# EAGLE library part CARD_EDGE_20 (library Clean-Kong)
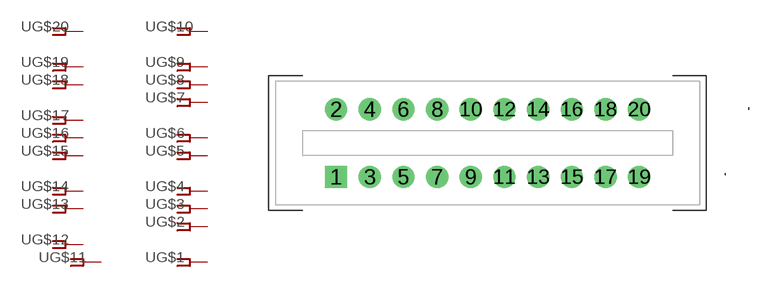
[diagram p17: symbol with the pads of CARD_EDGE_20; footprint CARD_EDGE_20]

Designator prefix -; gates G$1=FPINV G$2=FPINV G$3=FPINV G$4=FPINV G$5=FPINV G$6=FPINV G$7=FPINV G$8=FPINV G$9=FPINV G$10=FPINV G$11=FPINV G$12=FPINV G$13=FPINV G$14=FPINV G$15=FPINV G$16=FPINV G$17=FPINV G$18=FPINV G$19=FPINV G$20=FPINV

## CARD_EDGE_20  [CARD_EDGE_20]
1  G$1:1  pas
2  G$2:1  pas
3  G$3:1  pas
4  G$4:1  pas
5  G$5:1  pas
6  G$6:1  pas
7  G$7:1  pas
8  G$8:1  pas
9  G$9:1  pas
10  G$10:1  pas
11  G$11:1  pas
12  G$12:1  pas
13  G$13:1  pas
14  G$14:1  pas
15  G$15:1  pas
16  G$16:1  pas
17  G$17:1  pas
18  G$18:1  pas
19  G$19:1  pas
20  G$20:1  pas

## Footprint CARD_EDGE_20 (pad centres in mm)
drill 0.8 pad 1.676 square: 1 0,-5.093
drill 0.8 pad 1.676: 2 0,0.013; 3 2.54,-5.093; 4 2.54,0.013; 5 5.08,-5.093; 6 5.08,0.013; 7 7.62,-5.093; 8 7.62,0.013; 9 10.16,-5.093; 10 10.16,0.013; 11 12.7,-5.093; 12 12.7,0.013; 13 15.24,-5.093; 14 15.24,0.013; 15 17.78,-5.093; 16 17.78,0.013; 17 20.32,-5.093; 18 20.32,0.013; 19 22.86,-5.093; 20 22.86,0.013